# EAGLE library part MACH4032ZE (library Mine)
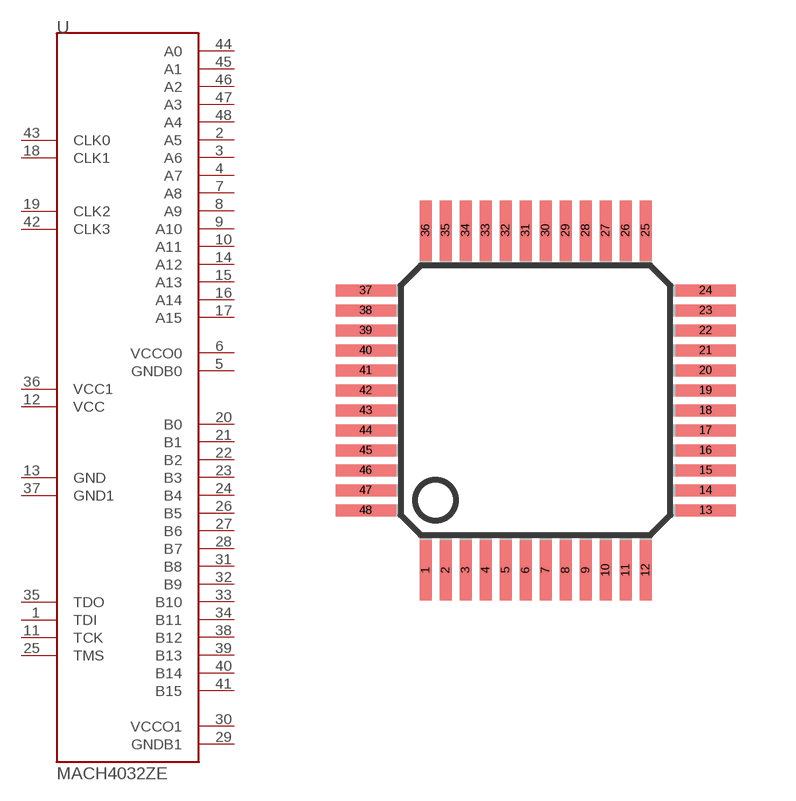
[diagram p65: symbol with the pads of TQFP48; footprint TQFP48]

Designator prefix -

## MACH4032ZE  [TQFP48]
1  TDI  in
2  A5
3  A6
4  A7
5  GNDB0  sup
6  VCCO0  sup
7  A8
8  A9
9  A10
10  A11
11  TCK  in
12  VCC  sup
13  GND  sup
14  A12
15  A13
16  A14
17  A15
18  CLK1
19  CLK2
20  B0
21  B1
22  B2
23  B3
24  B4
25  TMS  in
26  B5
27  B6
28  B7
29  GNDB1  sup
30  VCCO1  sup
31  B8
32  B9
33  B10
34  B11
35  TDO  out
36  VCC1  sup
37  GND1  sup
38  B12
39  B13
40  B14
41  B15
42  CLK3
43  CLK0
44  A0
45  A1
46  A2
47  A3
48  A4

## Footprint TQFP48 (pad centres in mm)
Thin Quad Flat Pack
smd 0.3 x 1.5: 1 -2.75,-4.25; 2 -2.25,-4.25; 3 -1.75,-4.25; 4 -1.25,-4.25; 5 -0.75,-4.25; 6 -0.25,-4.25; 7 0.25,-4.25; 8 0.75,-4.25; 9 1.25,-4.25; 10 1.75,-4.25; 11 2.25,-4.25; 12 2.75,-4.25; 25 2.75,4.25; 26 2.25,4.25; 27 1.75,4.25; 28 1.25,4.25; 29 0.75,4.25; 30 0.25,4.25; 31 -0.25,4.25; 32 -0.75,4.25; 33 -1.25,4.25; 34 -1.75,4.25; 35 -2.25,4.25; 36 -2.75,4.25
smd 1.5 x 0.3: 13 4.25,-2.75; 14 4.25,-2.25; 15 4.25,-1.75; 16 4.25,-1.25; 17 4.25,-0.75; 18 4.25,-0.25; 19 4.25,0.25; 20 4.25,0.75; 21 4.25,1.25; 22 4.25,1.75; 23 4.25,2.25; 24 4.25,2.75; 37 -4.25,2.75; 38 -4.25,2.25; 39 -4.25,1.75; 40 -4.25,1.25; 41 -4.25,0.75; 42 -4.25,0.25; 43 -4.25,-0.25; 44 -4.25,-0.75; 45 -4.25,-1.25; 46 -4.25,-1.75; 47 -4.25,-2.25; 48 -4.25,-2.75